# Altium footprint library TE_6-146276-6.PcbLib: 1 footprints
Each footprint in its own frame and in the unit in brackets; x right, y up, seen from the top. Pads: shape width x height; smd on the part's side, far side on the other; paste and mask are expansions set on the pad; w line width, h text height; cw(c..) or ccw(c..) is an arc to the next point about the centre after c.
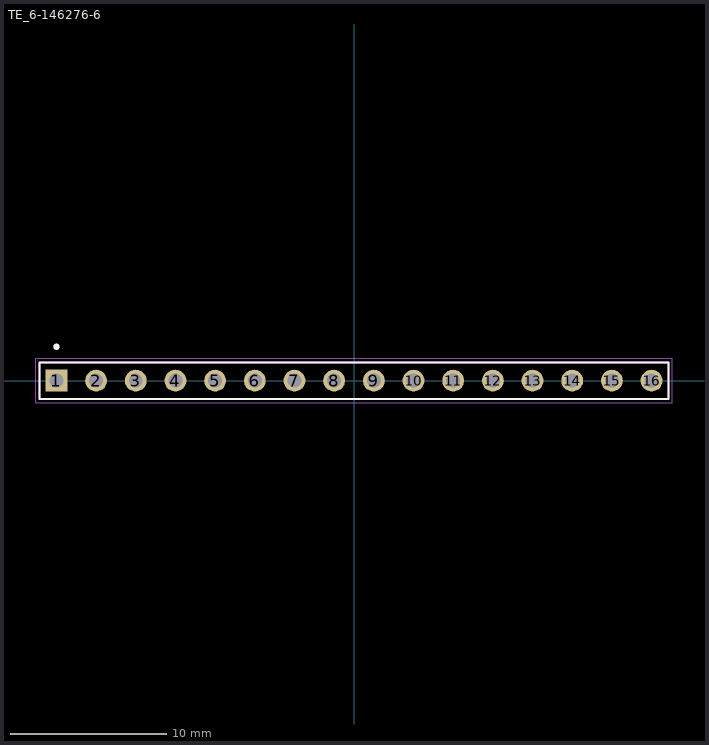
[diagram p0: the footprint, top view; thin cyan lines are the x and y axes]

## TE_6-146276-6 [mm]
pads (16):
  rect 1.398x1.398 hole 0.89: 1(-19.05,0)
  round 1.398 hole 0.89: 2(-16.51,0) 3(-13.97,0) 4(-11.43,0) 5(-8.89,0) 6(-6.35,0) 7(-3.81,0) 8(-1.27,0) 9(1.27,0) 10(3.81,0) 11(6.35,0) 12(8.89,0) 13(11.43,0) 14(13.97,0) 15(16.51,0) 16(19.05,0)
Top Overlay:
  circle w0.2: c-19.05,2.17 r0.1
  lines w0.127: -20.12,-1.17 20.12,-1.17 20.12,1.17 -20.12,1.17 -20.12,-1.17
Mechanical 13:
  circle w0.2: c-19.05,2.17 r0.1
  lines w0.127: -20.12,-1.17 20.12,-1.17 20.12,1.17 -20.12,1.17 -20.12,-1.17
Mechanical 15:
  lines w0.05: -20.37,-1.42 20.37,-1.42 20.37,1.42 -20.37,1.42 -20.37,-1.42
3D body "step_temp.STEP": height 1.17, standoff -1.17, extent -20.117,-8.077 20.117,5.461